# EAGLE library part ER400TRS (library Er400TRS)
Baustein von LPRS mit 433 MHz Transceiver (BIM2) und Manchester De/Encoder; Schnittstelle: UART KWBaier
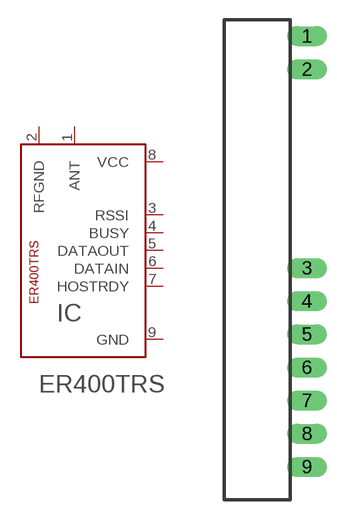
[diagram p0: symbol with the pads of ER400TRS; footprint ER400TRS]

Designator prefix IC

## ER400TRS433MHZ  [ER400TRS]
1  ANT
2  RFGND  pwr
3  RSSI
4  BUSY
5  DATAOUT
6  DATAIN
7  HOSTRDY
8  VCC  pwr
9  GND  pwr

## Footprint ER400TRS (pad centres in mm)
drill 1.016 long: 1 6.35,35.56; 2 6.35,33.02; 3 6.35,17.78; 4 6.35,15.24; 5 6.35,12.7; 6 6.35,10.16; 7 6.35,7.62; 8 6.35,5.08; 9 6.35,2.54